# EAGLE library part SST26WF064C-104I/SM (library Memory)
IC FLASH 64M SPI 104MHZ 8SOIJ Manufacturer's datasheet <http://ww1.microchip.com/downloads/en/DeviceDoc/SST26WF064C-1.8V-64-Mbit-Serial-Quad-I-O-SQI-Flash-Memory-Data-Sheet-DS20005430C.pdf>
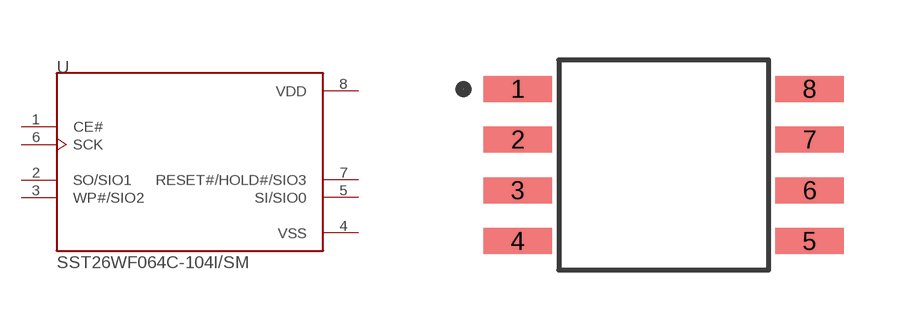
[diagram p4: symbol with the pads of SOIJ-8; footprint SOIJ-8]

Designator prefix U

## SST26WF064C-104I/SM (CREATED_BY: PCBLayout.com; DIGIKEY_PART_NUMBER: SST26WF064C-104I/SM-ND; MANUFACTURER: Microchip Technology; MPN: SST26WF064C-104I/SM; PACKAGE: 8-SOIJ)  [SOIJ-8]
1  CE#  in
2  SO/SIO1
3  WP#/SIO2
4  VSS  pwr
5  SI/SIO0
6  SCK  in
7  RESET#/HOLD#/SIO3
8  VDD  pwr

## Footprint SOIJ-8 (pad centres in mm)
smd 1.7 x 0.65: 1 -3.65,1.905; 2 -3.65,0.635; 3 -3.65,-0.635; 4 -3.65,-1.905; 5 3.65,-1.905; 6 3.65,-0.635; 7 3.65,0.635; 8 3.65,1.905